# Altium footprint library Lichuang Electronic Technology.PcbLib: 5 footprints
Each footprint in its own frame and in the unit in brackets; x right, y up, seen from the top. Pads: shape width x height; smd on the part's side, far side on the other; paste and mask are expansions set on the pad; w line width, h text height; cw(c..) or ccw(c..) is an arc to the next point about the centre after c.
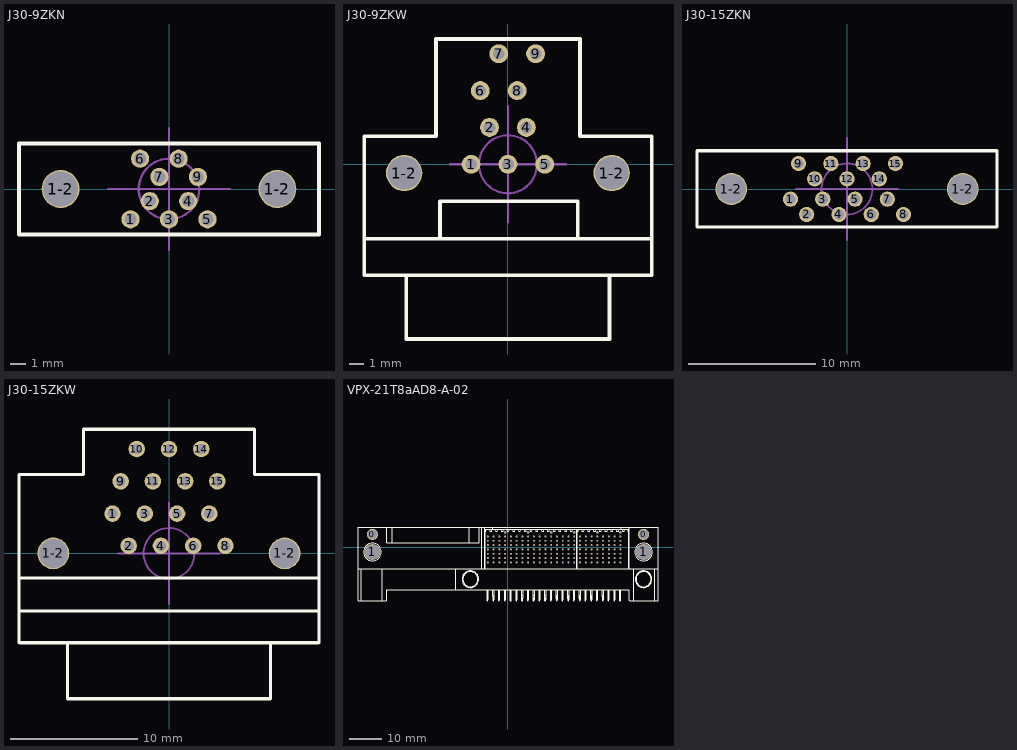
[diagram p0: the footprints below, top view; thin cyan lines are the x and y axes]

## J30-9ZKN [mm] "直座"
pads (11):
  round 1.2 hole 0.8: 1(-2.54,-2) 2(-1.27,-0.8) 3(0,-2) 4(1.27,-0.8) 5(2.54,-2) 6(-1.905,2) 7(-0.635,0.8) 8(0.635,2) 9(1.905,0.8)
  round 2.5 hole 2.3: 1-2(-7.15,0) 1-2(7.15,0)
Top Overlay:
  lines w0.254: -9.9,-3 -9.9,3 9.9,3 9.9,-3 -9.9,-3
Mechanical 15 (Mech15):
  circle w0.152: c0,0 r2
  lines w0.152: -4,0 4,0 ; 0,-4 0,4
3D body "J30-09ZKN.stp": height 11.9, standoff -4.9, extent -9.9,-2.733 9.9,2.667

## J30-9ZKW [mm] "弯座"
pads (11):
  round 1.3 hole 0.8: 1(-2.54,0) 2(-1.27,2.54) 3(0,0) 4(1.27,2.54) 5(2.54,0) 6(-1.905,5.08) 7(-0.635,7.62) 8(0.635,5.08) 9(1.905,7.62)
  round 2.5 hole 2.3: 1-2(-7.15,-0.6) 1-2(7.15,-0.6)
Top Overlay:
  lines w0.254: -9.9,-7.64 -9.9,-6.433 -9.9,1.934 ; -9.894,1.94 -4.953,1.94 -4.953,2.702 -4.953,7.782 -4.953,8.636 4.965,8.636 4.965,1.934 9.906,1.934 9.906,-6.379 9.906,-7.64 -9.773,-7.64 ; -9.773,-5.14 9.906,-5.14 ; -7,-7.64 -7,-12.04 7,-12.04 7,-7.64 ; -4.684,-5.14 -4.684,-2.54 4.816,-2.54 4.816,-5.14
Mechanical 15 (Mech15):
  circle w0.152: c0,0 r2
  lines w0.152: -4,0 4,0 ; 0,-4 0,4
3D body "J30-9ZKW.STEP": height 5.45, standoff -5.45, extent -9.9,-12.04 9.9,7.93

## J30-15ZKN [mm] "直座"
pads (17):
  round 1.2 hole 0.8: 1(-4.445,-0.8) 2(-3.175,-2) 3(-1.905,-0.8) 4(-0.635,-2) 5(0.635,-0.8) 6(1.905,-2) 7(3.175,-0.8) 8(4.445,-2) 9(-3.81,2) 10(-2.54,0.8) 11(-1.27,2) 12(0,0.8) 13(1.27,2) 14(2.54,0.8) 15(3.81,2)
  round 2.5 hole 2.3: 1-2(-9.1,0) 1-2(9.1,0)
Top Overlay:
  lines w0.254: -11.8,-3 11.8,-3 11.8,3 -11.8,3 -11.8,-3
Mechanical 15 (Mech15):
  circle w0.152: c0,0 r2
  lines w0.152: -4,0 4,0 ; 0,-4 0,4
3D body "J30-15ZKN.stp": height 12.1, standoff -5.6, extent -11.689,-3.8 11.811,3.8

## J30-15ZKW [mm] "弯座"
pads (17):
  round 1.3 hole 0.8: 1(-4.445,3.14) 2(-3.175,0.6) 3(-1.905,3.14) 4(-0.635,0.6) 5(0.635,3.14) 6(1.905,0.6) 7(3.175,3.14) 8(4.445,0.6) 9(-3.81,5.68) 10(-2.54,8.22) 11(-1.27,5.68) 12(0,8.22) 13(1.27,5.68) 14(2.54,8.22) 15(3.81,5.68)
  round 2.5 hole 2.3: 1-2(-9.1,0) 1-2(9.1,0)
Top Overlay:
  lines w0.254: -11.811,6.223 -6.811,6.223 ; -11.805,-7.04 -11.805,-2.15 -11.805,6.217 ; -11.684,-7.04 11.684,-7.04 ; -11.684,-4.54 11.684,-4.54 ; -11.684,-1.94 11.684,-1.94 ; -8,-7.112 -8,-11.44 8,-11.44 8,-7.113 ; -6.731,6.223 -6.731,9.779 6.731,9.779 6.731,6.223 11.731,6.223 ; 11.811,-7.04 11.811,-2.095 11.811,6.217
Mechanical 15 (Mech15):
  circle w0.152: c0,0 r2
  lines w0.152: -4,0 4,0 ; 0,-4 0,4
3D body "J30-15ZKW.STEP": height 5.52, standoff -5.38, extent -11.8,-11.4 11.8,8.57

## VPX-21T8aAD8-A-02 [mm]
pads (178):
  round 3.5 hole 3 unplated: 0(-42.351,4.068) 0(42.351,4.075)
  round 5 hole 4.65 unplated: 1(-42.349,-1.425) 1(42.351,-1.425)
  round 0.8 hole 0.56 unplated: 2(-0.899,4.675) 2(6.301,4.675) 2(13.501,4.675) 2(20.701,4.675) 2(27.901,4.675) 2(35.101,4.675)
  round 0.6 hole 0.46 unplated: P0A1(35.101,-4.675) P0A2(33.301,-4.675) P0A3(31.501,-4.675) P0A4(29.701,-4.675) P0A5(27.901,-4.675) P0A6(26.101,-4.675) P0A7(24.301,-4.675) P0A8(22.501,-4.675) P0B1(35.101,-3.325) P0B2(33.301,-3.325) P0B3(31.501,-3.325) P0B4(29.701,-3.325) P0B5(27.901,-3.325) P0B6(26.101,-3.325) P0B7(24.301,-3.325) P0B8(22.501,-3.325) P0C1(35.101,-1.975) P0C2(33.301,-1.975) P0C3(31.501,-1.975) P0C4(29.701,-1.975) P0C5(27.901,-1.975) P0C6(26.101,-1.975) P0C7(24.301,-1.975) P0C8(22.501,-1.975) P0D1(35.101,-0.625) P0D2(33.301,-0.625) P0D3(31.501,-0.625) P0D4(29.701,-0.625) P0D5(27.901,-0.625) P0D6(26.101,-0.625) P0D7(24.301,-0.625) P0D8(22.501,-0.625) P0E1(35.101,0.725) P0E2(33.301,0.725) P0E3(31.501,0.725) P0E4(29.701,0.725) P0E5(27.901,0.725) P0E6(26.101,0.725) P0E7(24.301,0.725) P0E8(22.501,0.725) P0F1(35.101,2.075) P0F2(33.301,2.075) P0F3(31.501,2.075) P0F4(29.701,2.075) P0F5(27.901,2.075) P0F6(26.101,2.075) P0F7(24.301,2.075) P0F8(22.501,2.075) P0G1(35.101,3.425) P0G2(33.301,3.425) P0G3(31.501,3.425) P0G4(29.701,3.425) P0G5(27.901,3.425) P0G6(26.101,3.425) P0G7(24.301,3.425) P0G8(22.501,3.425) P1A1(4.501,-4.675) P1A1(20.701,-4.675) P1A2(2.701,-4.675) P1A2(18.901,-4.675) P1A3(0.901,-4.675) P1A3(17.101,-4.675) P1A4(-0.899,-4.675) P1A4(15.301,-4.675) P1A5(-2.699,-4.675) P1A5(13.501,-4.675) P1A6(-4.499,-4.675) P1A6(11.701,-4.675) P1A7(-6.299,-4.675) P1A7(9.901,-4.675) P1A8(8.101,-4.675) P1A9(6.301,-4.675) P1B1(4.501,-3.325) P1B1(20.701,-3.325) P1B2(2.701,-3.325) P1B2(18.901,-3.325) P1B3(0.901,-3.325) P1B3(17.101,-3.325) P1B4(-0.899,-3.325) P1B4(15.301,-3.325) P1B5(-2.699,-3.325) P1B5(13.501,-3.325) P1B6(-4.499,-3.325) P1B6(11.701,-3.325) P1B7(-6.299,-3.325) P1B7(9.901,-3.325) P1B8(8.101,-3.325) P1B9(6.301,-3.325) P1C1(4.501,-1.975) P1C1(20.701,-1.975) P1C2(2.701,-1.975) P1C2(18.901,-1.975) P1C3(0.901,-1.975) P1C3(17.101,-1.975) P1C4(-0.899,-1.975) P1C4(15.301,-1.975) P1C5(-2.699,-1.975) P1C5(13.501,-1.975) P1C6(-4.499,-1.975) P1C6(11.701,-1.975) P1C7(-6.299,-1.975) P1C7(9.901,-1.975) P1C8(8.101,-1.975) P1C9(6.301,-1.975) P1D1(4.501,-0.625) P1D1(20.701,-0.625) P1D2(2.701,-0.625) P1D2(18.901,-0.625) P1D3(0.901,-0.625) P1D3(17.101,-0.625) P1D4(-0.899,-0.625) P1D4(15.301,-0.625) P1D5(-2.699,-0.625) P1D5(13.501,-0.625) P1D6(-4.499,-0.625) P1D6(11.701,-0.625) P1D7(-6.299,-0.625) P1D7(9.901,-0.625) P1D8(8.101,-0.625) P1D9(6.301,-0.625) P1E1(4.501,0.725) P1E1(20.701,0.725) P1E2(2.701,0.725) P1E2(18.901,0.725) P1E3(0.901,0.725) P1E3(17.101,0.725) P1E4(-0.899,0.725) P1E4(15.301,0.725) P1E5(-2.699,0.725) P1E5(13.501,0.725) P1E6(-4.499,0.725) P1E6(11.701,0.725) P1E7(-6.299,0.725) P1E7(9.901,0.725) P1E8(8.101,0.725) P1E9(6.301,0.725) P1F1(4.501,2.075) P1F1(20.701,2.075) P1F2(2.701,2.075) P1F2(18.901,2.075) P1F3(0.901,2.075) P1F3(17.101,2.075) P1F4(-0.899,2.075) P1F4(15.301,2.075) P1F5(-2.699,2.075) P1F5(13.501,2.075) P1F6(-4.499,2.075) P1F6(11.701,2.075) P1F7(-6.299,2.075) P1F7(9.901,2.075) P1F8(8.101,2.075) P1F9(6.301,2.075) P1G1(4.501,3.425) P1G1(20.701,3.425) P1G2(2.701,3.425) P1G2(18.901,3.425) P1G3(0.901,3.425) P1G3(17.101,3.425) P1G4(-0.899,3.425) P1G4(15.301,3.425) P1G5(-2.699,3.425) P1G5(13.501,3.425) P1G6(-4.499,3.425) P1G6(11.701,3.425) P1G7(-6.299,3.425) P1G7(9.901,3.425) P1G8(8.101,3.425) P1G9(6.301,3.425)
Top Overlay:
  drawing of 619 lines, arcs and shapes, not listed
3D body "VPX-21T8aAD8-A-02.stp": height 15.5, standoff -4.5, extent -46.863,-16.637 46.837,6.363